# Altium footprint library ul_S8BPHKSLFSN.PcbLib: 1 footprints
Each footprint in its own frame and in the unit in brackets; x right, y up, seen from the top. Pads: shape width x height; smd on the part's side, far side on the other; paste and mask are expansions set on the pad; w line width, h text height; cw(c..) or ccw(c..) is an arc to the next point about the centre after c.
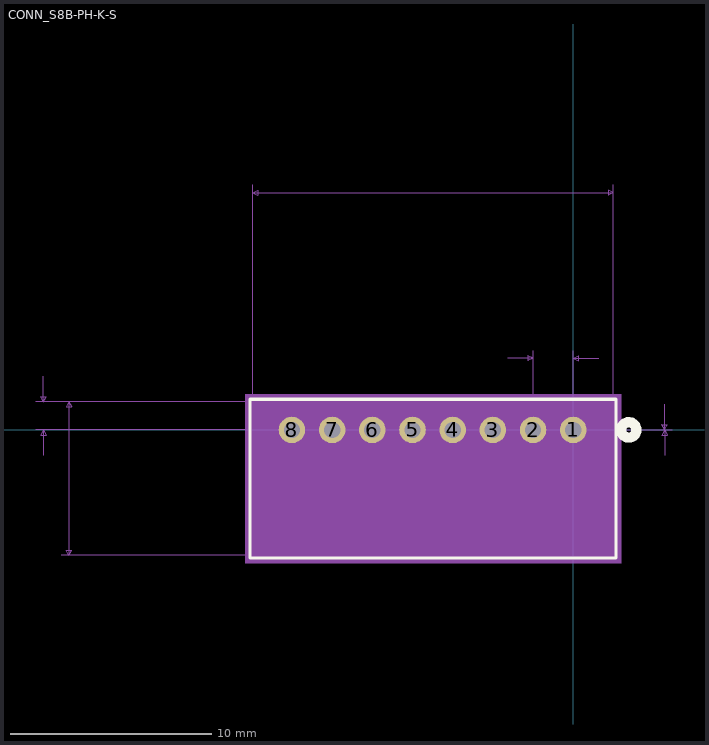
[diagram p0: the footprint, top view; thin cyan lines are the x and y axes]

## CONN_S8B-PH-K-S [mil]
pads (8):
  round 52 hole 32 mask+0: 1(0,0) 2(-78.74,0) 3(-157.48,0) 4(-236.22,0) 5(-314.96,0) 6(-393.7,0) 7(-472.44,0) 8(-551.18,0)
Top Overlay:
  circle w20: c108.89,0 r15
  lines w6: -633.11,-250.88 83.89,-250.88 83.89,60.12 -633.11,60.12 -633.11,-250.88
Bottom Overlay:
  circle w20: c108.89,0 r15
Mechanical 5:
  region: -643.11,70.12 93.89,70.12 93.89,-260.88 -643.11,-260.88
Mechanical 7:
  lines w1: -1053.11,0 -274.61,0 ; -1053.11,55.12 -628.11,55.12 ; -1038.11,-50 -1038.11,0 ; -1038.11,105.12 -1038.11,55.12 ; -1003.11,-245.88 -628.11,-245.88 ; -1003.11,55.12 -628.11,55.12 ; -628.11,480.12 -628.11,55.12 ; -128.74,140.12 -78.74,140.12 ; -78.74,0 -78.74,155.12 ; 0,155.12 0,0 ; 50,140.12 0,140.12 ; 78.89,55.12 78.89,480.12 ; 178.89,-50 178.89,0 ; 178.89,50 178.89,0 ; -1038.11,0 -1043.11,-10 -1033.11,-10 -1038.11,0 ; -1038.11,55.12 -1043.11,65.12 -1033.11,65.12 -1038.11,55.12 ; -988.11,-245.88 -988.11,55.12 ; -988.11,-245.88 -993.11,-235.88 -983.11,-235.88 -988.11,-245.88 ; -988.11,55.12 -993.11,45.12 -983.11,45.12 -988.11,55.12 ; -628.11,465.12 78.89,465.12 ; -628.11,465.12 -618.11,470.12 -618.11,460.12 -628.11,465.12 ; -78.74,140.12 -88.74,145.12 -88.74,135.12 -78.74,140.12 ; 0,0 193.89,0 0,0 ; 0,140.12 10,145.12 10,135.12 0,140.12 ; 78.89,465.12 68.89,470.12 68.89,460.12 78.89,465.12 ; 178.89,0 173.89,10 183.89,10 178.89,0 ; 178.89,0 173.89,-10 183.89,-10 178.89,0
  text "Default Padstyle: c132h81" at -587.11,-405.88 h50
  text "1st Mtg Padstyle: r203_305h127" at -649.61,-480.88 h50
  text "2nd Mtg Padstyle: c178h178" at -599.61,-555.88 h50
  text "3rd Mtg Padstyle: c178h178" at -599.61,-630.88 h50
  text "Left Mtg Padstyle: c152h76" at -599.61,-705.88 h50
  text "Right Mtg Padstyle: c130h130" at -624.61,-780.88 h50
  text "Alt Padstyle 1: b152_229h76" at -612.11,-855.88 h50
  text "Alt Padstyle 2: b229_152h76" at -612.11,-930.88 h50
  text "0.079in/2mm" at -166.68,160.12 h25
  text "0.707in/17.958mm" at -374.61,485.12 h25
  text "0in/0mm" at 198.89,-12.5 h25
  text "0.055in/1.4mm" at -1220.61,15.06 h25
  text "0.301in/7.645mm" at -1195.61,-107.88 h25
Mechanical 13:
  circle w20: c0,-75 r15
  lines w1: -628.11,-245.88 78.89,-245.88 78.89,55.12 -628.11,55.12 -628.11,-245.88
Mechanical 15:
  region: 88.89,65.12 -638.11,65.12 -638.11,-255.88 88.89,-255.88
  lines w6: -638.11,-255.88 -638.11,65.12 88.89,65.12 88.89,-255.88 -638.11,-255.88
3D body: height 10, standoff 0, extent 0,0 10,10